# Altium schematic symbol library MAX40027ATC_VY+T.SchLib: 1 symbol
Pins are listed as number, name and electrical type; pins without a type are passive.

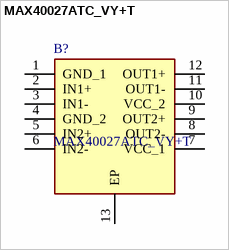
[diagram p0: symbol MAX40027ATC_VY+T]

## MAX40027ATC_VY+T
designator B?
Dual 280ps High-Speed Comparator, Ultra-Low Dispersion with LVDS Outputs; Manufacturer_Name: Analog Devices; Manufacturer_Part_Number: MAX40027ATC/VY+T; Geometry.Height: 0.8mm; Mouser Part Number: 700-MAX40027ATC/VY+T; Mouser Price/Stock: https://www.mouser.co.uk/ProductDetail/Analog-Devices-Maxim-Integrated/MAX40027ATC-VY%2bT?qs=vmHwEFxEFR8%252B9HSNBRNlvA%3D%3D; Datasheet Link: https://pdfserv.maximintegrated.com/en/ds/MAX40027.pdf
footprint SON50P200X300X80-13N
pins: 1 GND_1, 2 IN1+, 3 IN1-, 4 GND_2, 5 IN2+, 6 IN2-, 7 VCC_1, 8 OUT2-, 9 OUT2+, 10 VCC_2, 11 OUT1-, 12 OUT1+, 13 EP